# Altium schematic symbol library 692122030100.SchLib: 1 symbol
Pins are listed as number, name and electrical type; pins without a type are passive.

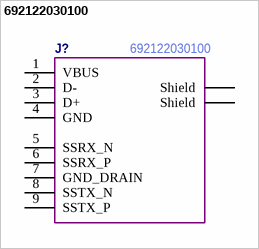
[diagram p0: symbol 692122030100]

## 692122030100
designator J?  Manufacturer Part Number: 692122030100  (hidden comment: *)
pins: 1 VBUS, 2 D-, 3 D+, 4 GND, 5 SSRX_N, 6 SSRX_P, 7 GND_DRAIN, 8 SSTX_N, 9 SSTX_P, S1 Shield, S2 Shield